# Altium schematic symbol library CAP_POL.SchLib: 1 symbol
Pins are listed as number, name and electrical type; pins without a type are passive.

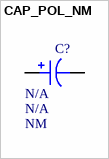
[diagram p0: symbol CAP_POL_NM]

## CAP_POL_NM
designator C?, comment Material: NM  (hidden comment: N/A)
CAP, size NM, NM, N/A; Packaging: Tape and Reel; Supplier URL: N/A; Tolerance: N/A; Supplier: N/A; Supplier Part Number: N/A; ComponentLink1Description: Datasheet; ComponentLink1URL: N/A; Mount: SMD/SMT; Operating Temperature Max: + 85 C; Operating Temperature Min: - 40 C; Package / Case: N/A; Voltage Rating DC: N/A; Capacitance: N/A
footprint CAP TAN 1411 (Molded Capacitor, 2-Leads, Body 3.50x2.80mm, IPC Medium Density)
footprint CAP TAN 1206 (Molded Capacitor, 2-Leads, Body 3.20x1.6mm, IPC Medium Density)
footprint CAP POL 2917 (Molded Capacitor, 2-Leads, Body 7.30x4.30mm, IPC Medium Density)
footprint CAP_TAN-2312
pins: 1, 2